# Altium integrated library TBLH10-350-10BK.IntLib: 1 symbol
Pins are listed as number, name and electrical type; pins without a type are passive.

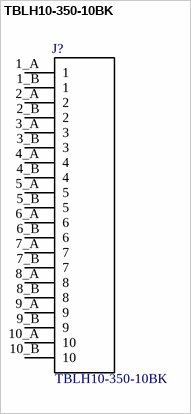
[diagram p0: symbol TBLH10-350-10BK]

## TBLH10-350-10BK
designator J?
Value: *
footprint *CUI_TBLH10-350-10BK_TBLH10-350-10BK(Primary)
pins: 1_A 1, 1_B 1, 2_A 2, 2_B 2, 3_A 3, 3_B 3, 4_A 4, 4_B 4, 5_A 5, 5_B 5, 6_A 6, 6_B 6, 7_A 7, 7_B 7, 8_A 8, 8_B 8, 9_A 9, 9_B 9, 10_A 10, 10_B 10